# Altium footprint library G800LE300018YEU.PcbLib: 1 footprints
Each footprint in its own frame and in the unit in brackets; x right, y up, seen from the top. Pads: shape width x height; smd on the part's side, far side on the other; paste and mask are expansions set on the pad; w line width, h text height; cw(c..) or ccw(c..) is an arc to the next point about the centre after c.
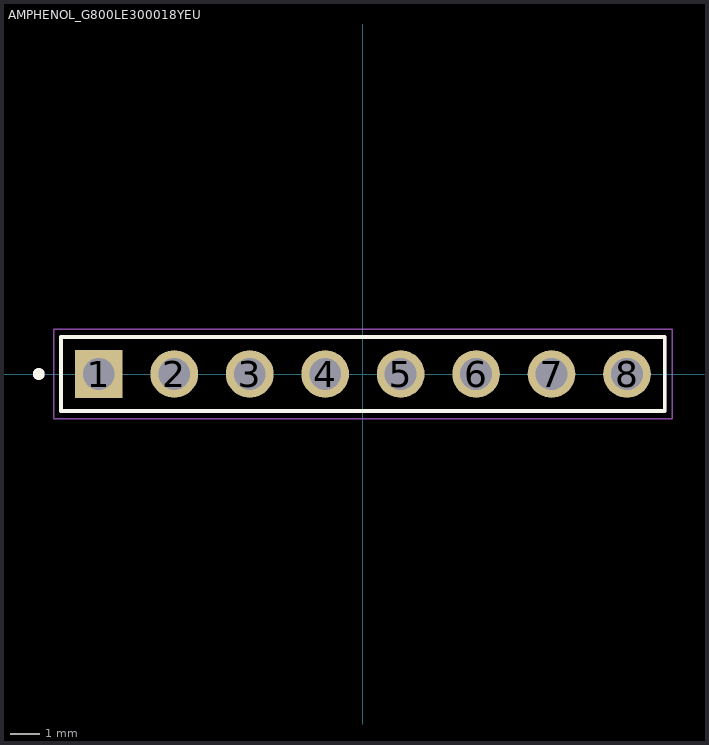
[diagram p0: the footprint, top view; thin cyan lines are the x and y axes]

## AMPHENOL_G800LE300018YEU [mm]
pads (8):
  rect 1.605x1.605 hole 1.07: 1(-8.89,0)
  round 1.605 hole 1.07: 2(-6.35,0) 3(-3.81,0) 4(-1.27,0) 5(1.27,0) 6(3.81,0) 7(6.35,0) 8(8.89,0)
Top Overlay:
  circle w0.2: c-10.91,0 r0.1
  lines w0.127: -10.16,-1.25 10.16,-1.25 10.16,1.25 -10.16,1.25 -10.16,-1.25
Mechanical 13:
  circle w0.2: c-10.91,0 r0.1
  lines w0.127: -10.16,-1.25 10.16,-1.25 10.16,1.25 -10.16,1.25 -10.16,-1.25
Mechanical 15:
  lines w0.05: -10.41,-1.5 -10.41,1.5 10.41,1.5 10.41,-1.5 -10.41,-1.5
3D body "TFT 1.44.STEP": height 11.62, standoff -1.74, extent -15.127,-41.206 14.873,2.794